# Altium integrated library 282836-3.IntLib: 1 symbol
Pins are listed as number, name and electrical type; pins without a type are passive.

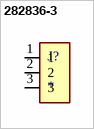
[diagram p0: symbol 282836-3]

## 282836-3
designator J?
TERM BLOCK 3POS SIDE ENTRY 5MM; MP: 282836-3; Price: None; Value: *; Package: None; Availability: Unavailable
footprint TE_282836-3
pins: 1, 2, 3